# EAGLE library part ADM699ANZ (library BME_Components)
Microprocessor Supervisory Circuits
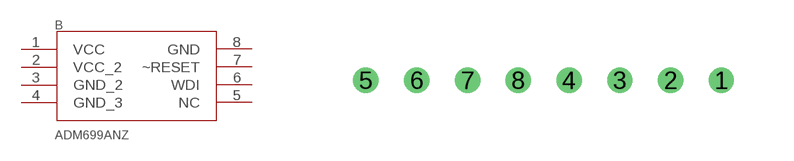
[diagram p4: symbol with the pads of ADM699ANZ_PDIP-8; footprint ADM699ANZ_PDIP-8]

Designator prefix B

## ADM699ANZADM699ANZ_ADM699ANZ_PDIP-8 (DATASHEET_LINK: https://www.mouser.com/datasheet/2/609/ADM698_699-1503219.pdf; MANUFACTURER_NAME: Analog Devices; MANUFACTURER_PART_NUMBER: ADM699ANZ; MOUSER_PART_NUMBER: 584-ADM699ANZ)  [ADM699ANZ_PDIP-8]
1  VCC  pas
2  VCC_2  pas
3  GND_2  pas
4  GND_3  pas
5  NC  pas
6  WDI  pas
7  ~RESET  pas
8  GND  pas

## Footprint ADM699ANZ_PDIP-8 (pad centres in mm)
drill 0.127 pad 0.254 round: 1 8.89,0; 2 7.62,0; 3 6.35,0; 4 5.08,0; 5 0,0; 6 1.27,0; 7 2.54,0; 8 3.81,0